# Altium footprint library Footprint_Oscillator.PcbLib: 1 footprints
Each footprint in its own frame and in the unit in brackets; x right, y up, seen from the top. Pads: shape width x height; smd on the part's side, far side on the other; paste and mask are expansions set on the pad; w line width, h text height; cw(c..) or ccw(c..) is an arc to the next point about the centre after c.
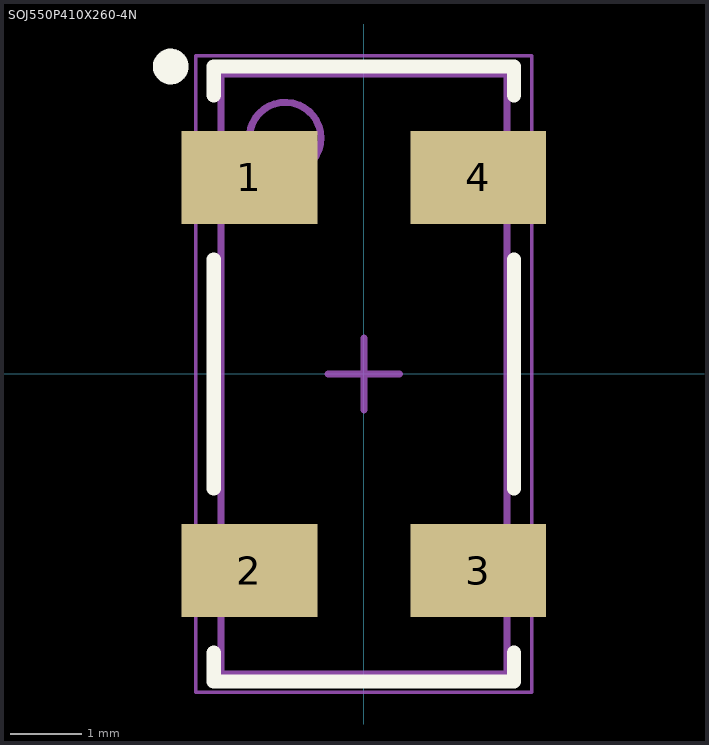
[diagram p0: the footprint, top view; thin cyan lines are the x and y axes]

## SOJ550P410X260-4N [mm] "SOJ, 4-Leads, Body 8.40x4.05mm, Pitch 5.50mm, IPC Medium Density"
height 2.6
pads (4):
  rect 1.9x1.3 smd: 1(-1.6,2.75) 2(-1.6,-2.75) 3(1.6,-2.75) 4(1.6,2.75)
Top Overlay:
  circle w0.25: c-2.7,4.3 r0.125
  lines w0.2: -2.1,-3.9 -2.1,-4.3 2.1,-4.3 2.1,-3.9 ; -2.1,-1.6 -2.1,1.6 ; -2.1,3.9 -2.1,4.3 2.1,4.3 2.1,3.9 ; 2.1,-1.6 2.1,1.6
Top Assembly:
  circle w0.1: c-1.1,3.3 r0.5
  lines w0.1: -2,-4.2 -2,4.2 2,4.2 2,-4.2 -2,-4.2
  text ".Designator" at 1.27,-7.747 h1.27
Top Courtyard:
  lines w0.05: -2.35,-4.45 2.35,-4.45 2.35,4.45 -2.35,4.45 -2.35,-4.45
  lines w0.1: -0.5,0 0.5,0 ; 0,-0.5 0,0.5
3D body: height 2.6, standoff 0.1, extent -2,-4.2 2,4.2